# EAGLE library part DS1075_SOIC8 (library dallas)
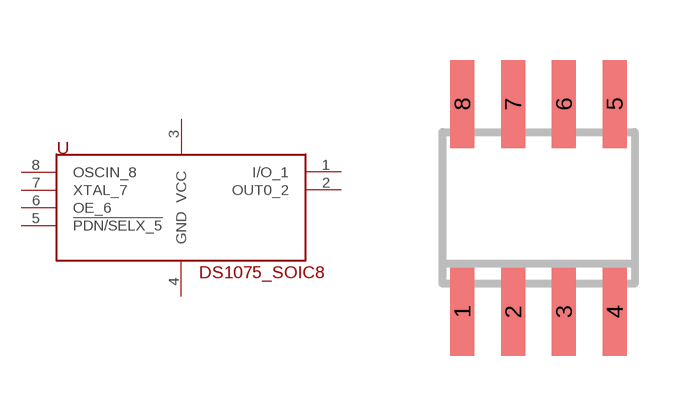
[diagram p0: symbol with the pads of SOIC8_150MIL; footprint SOIC8_150MIL]

Designator prefix -

## DS1075_SOIC8  [SOIC8_150MIL]
1  I/O_1
2  OUT0_2  out
3  VCC  pwr
4  GND  pwr
5  !PDN/SELX_5  in
6  OE_6  in
7  XTAL_7  in
8  OSCIN_8  in

## Footprint SOIC8_150MIL (pad centres in mm)
smd 0.6 x 2.2: 1 -1.956,-2.667; 2 -0.686,-2.667; 3 0.584,-2.667; 4 1.854,-2.667; 5 1.854,2.533; 6 0.584,2.533; 7 -0.686,2.533; 8 -1.956,2.533